# Altium footprint library AMS.PcbLib: 1 footprints
Each footprint in its own frame and in the unit in brackets; x right, y up, seen from the top. Pads: shape width x height; smd on the part's side, far side on the other; paste and mask are expansions set on the pad; w line width, h text height; cw(c..) or ccw(c..) is an arc to the next point about the centre after c.
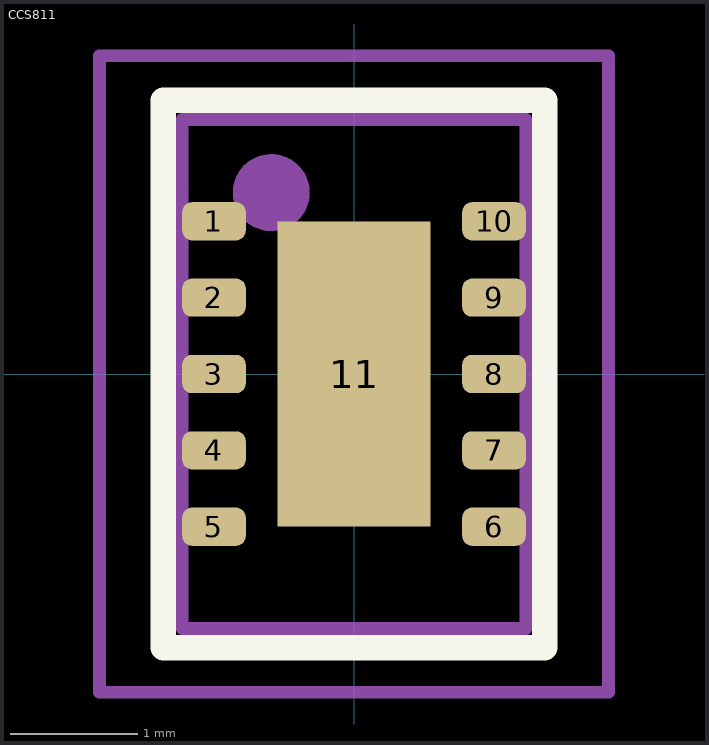
[diagram p0: the footprint, top view; thin cyan lines are the x and y axes]

## CCS811 [mm] "AMS CCS811 VOC sensor"
pads (11):
  rrect50% 0.5x0.3 smd: 1(-1.1,1.2) 2(-1.1,0.6) 3(-1.1,0) 4(-1.1,-0.6) 5(-1.1,-1.2) 6(1.1,-1.2) 7(1.1,-0.6) 8(1.1,0) 9(1.1,0.6) 10(1.1,1.2)
  rect 1.2x2.4 smd: 11(0,0)
Top Overlay:
  lines w0.2: -1.5,-2.15 1.5,-2.15 1.5,2.15 -1.5,2.15 -1.5,-2.15
3D Top:
  circle w0.3: c-0.65,1.425 r0.152
  lines w0.1: -1.35,-2 -1.35,2 1.35,2 1.35,-2 -1.35,-2
Courtyard Top:
  lines w0.1: -0.5,0 0.5,0 ; 0,-0.5 0,0.5 ; -2,-2.5 -2,2.5 2,2.5 2,-2.5 -2,-2.5
3D body: height 1.1, standoff -0.02, extent -1.35,-2 1.35,2